# EAGLE library part DMP2240UDM-7 (library DMP3085LSD)
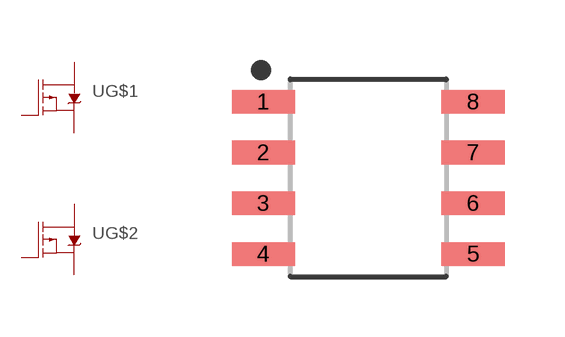
[diagram p0: symbol with the pads of SOIC127P600X150-8N; footprint SOIC127P600X150-8N]

Designator prefix -; gates G$1=LABELED-PMOS G$2=LABELED-PMOS

## DMP2240UDM-7  [SOIC127P600X150-8N]
1  G$1:S
2  G$1:G
3  G$2:S
4  G$2:G
5  G$2:D
6  G$2:D
7  G$1:D
8  G$1:D

## Footprint SOIC127P600X150-8N (pad centres in mm)
8-SOIC, 1.27 mm pitch, 6.00 mm span, 4.90 X 3.85 X 1.50 mm body 8-pin SOIC package with 1.27 mm pitch, 6.00 mm span with body size 4.90 X 3.85 X 1.50 mm
smd 1.58 x 0.589: 1 -2.625,1.905; 2 -2.625,0.635; 3 -2.625,-0.635; 4 -2.625,-1.905; 5 2.625,-1.905; 6 2.625,-0.635; 7 2.625,0.635; 8 2.625,1.905